# Altium integrated library Microchip Microcontroller 8-Bit PIC16 1.IntLib: 1072 symbols (part 33 of 33)
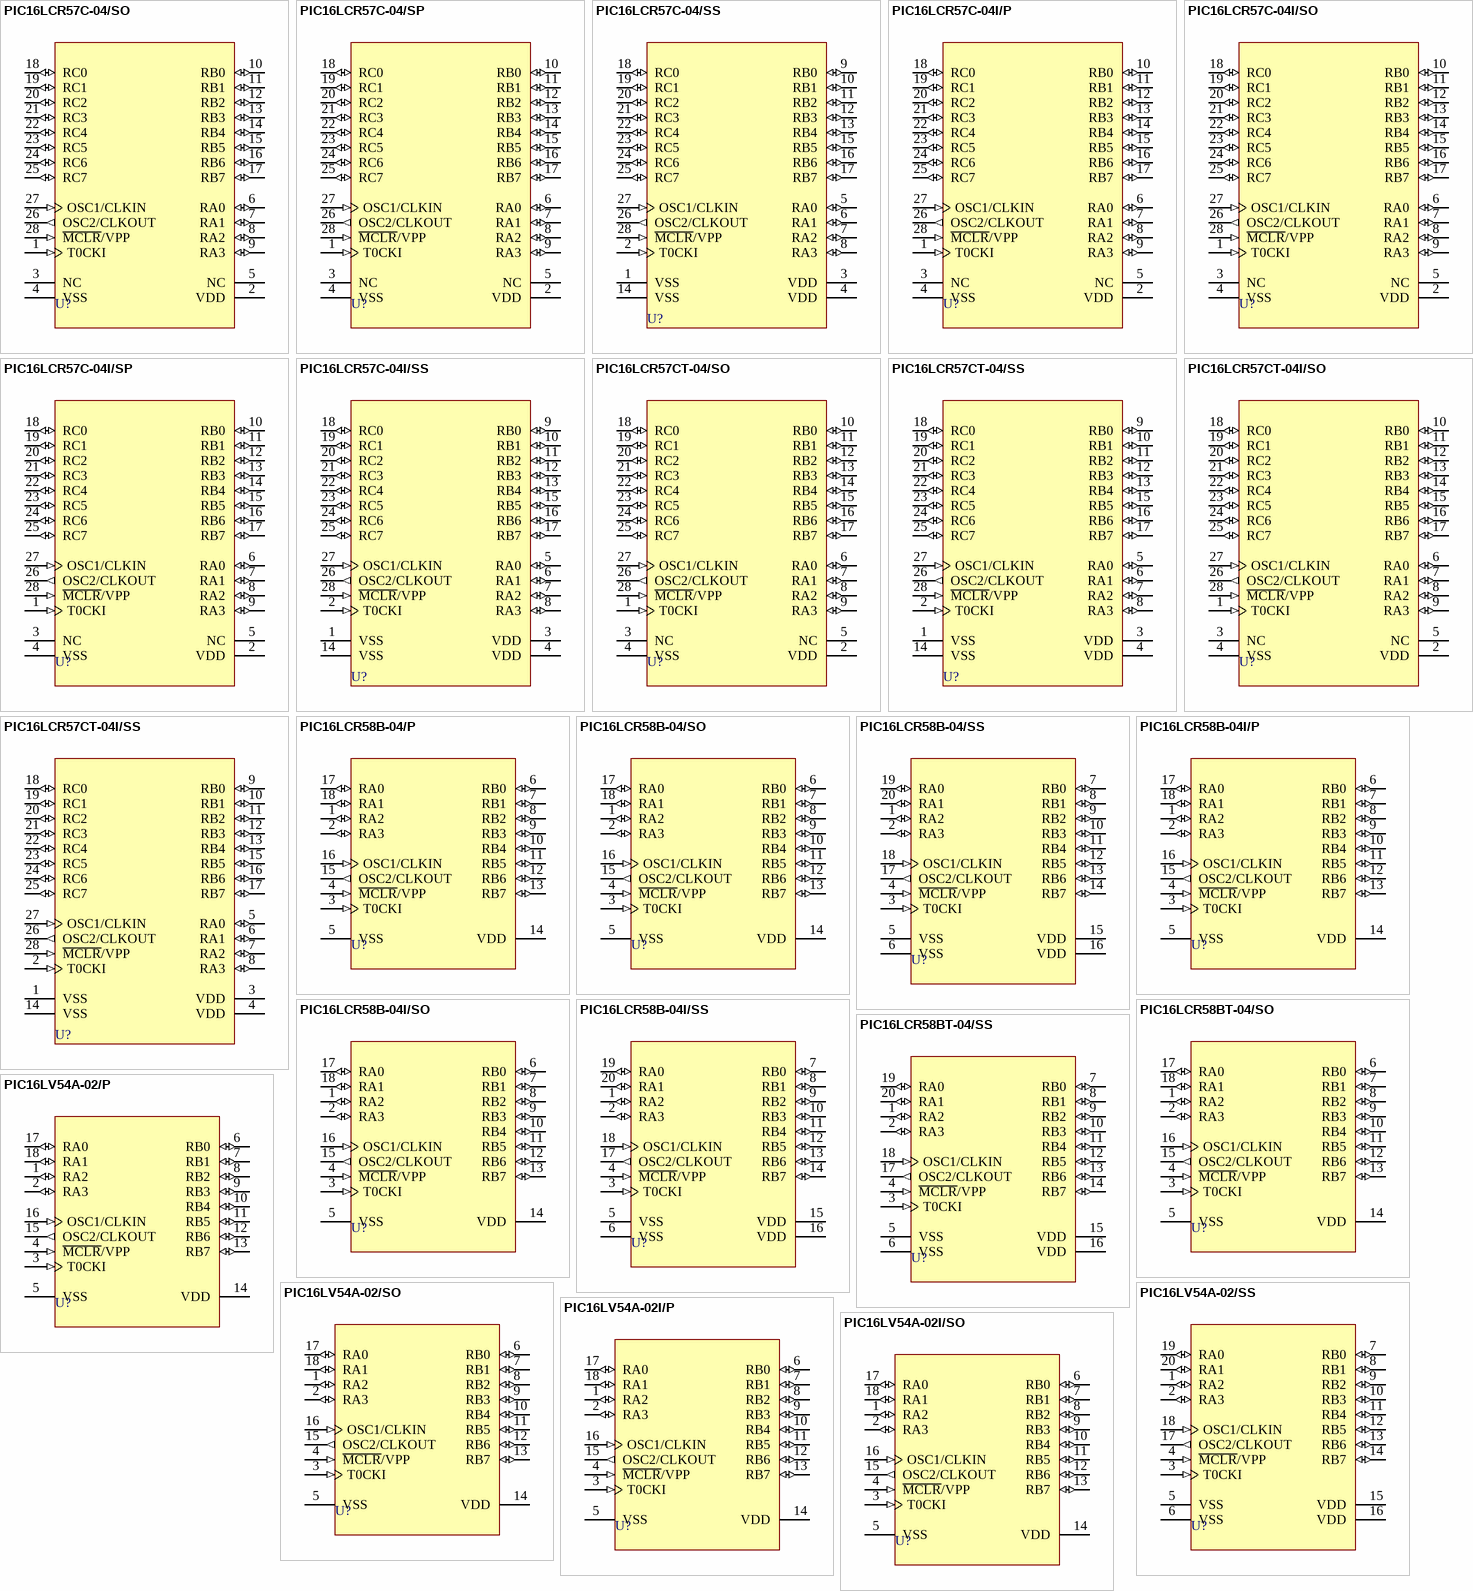
[diagram p79: symbols PIC16LCR57C-04/SO to PIC16LV54A-02I/SO]

## PIC16LCR57C-04/SS
designator U?
ROM-Based 8-Bit CMOS Microcontroller, 72 Bytes RAM, 4 MHz, 28-Pin SSOP, 2.5 to 5.5V Supply Range, Commercial Temperature; Note: Verify oscillator characteristics if changing from this device to another.; Note: 20mA source and 25mA sink per I/O.; Published: 11-Oct-2004; LatestRevisionDate: 04-Mar-2005; LatestRevisionNote: Stylized 3D Model Added.; DatasheetVersion: DS30453D_2002; PackageVersion: 2005; PackageReference: SSOP-28; Publisher: Altium Limited; PackageDescription: SSOP, Plastic; 28 Leads; Body Width 5.2 mm; Pitch 0.65 mm; Code_JEDEC: MS-150; ComponentLink1Description: Manufacturer Link; ComponentLink1URL: http://www.microchip.com; ComponentLink2Description: Datasheet; ComponentLink2URL: http://ww1.microchip.com/downloads/en/DeviceDoc/30453d.pdf; ComponentLink3Description: Packaging Specification; ComponentLink3URL: http://ww1.microchip.com/downloads/en/PackagingSpec/00049AD.pdf
footprint SSOP-28 (SSOP, Plastic; 28 Leads; Body Width 5.2 mm; Pitch 0.65 mm)
3D model SSOP-28 (SSOP, Plastic; 28 Leads; Body Width 5.2 mm; Pitch 0.65 mm)
pins: 1 VSS (power), 2 T0CKI (in), 3 VDD (power), 4 VDD (power), 5 RA0 (io), 6 RA1 (io), 7 RA2 (io), 8 RA3 (io), 9 RB0 (io), 10 RB1 (io), 11 RB2 (io), 12 RB3 (io), 13 RB4 (io), 14 VSS (power), 15 RB5 (io), 16 RB6 (io), 17 RB7 (io), 18 RC0 (io), 19 RC1 (io), 20 RC2 (io), 21 RC3 (io), 22 RC4 (io), 23 RC5 (io), 24 RC6 (io), 25 RC7 (io), 26 OSC2/CLKOUT (out), 27 OSC1/CLKIN (in), 28 ~{MCLR}/VPP (in)

## PIC16LCR57C-04I/P
designator U?
ROM-Based 8-Bit CMOS Microcontroller, 72 Bytes RAM, 4 MHz, 28-Pin PDIP 600mil, 2.7 to 5.5V Supply Range, Industrial Temperature; Note: Verify oscillator characteristics if changing from this device to another.; Note: 20mA source and 25mA sink per I/O.; Published: 11-Oct-2004; LatestRevisionDate: 04-Mar-2005; LatestRevisionNote: Stylized 3D Model Added.; DatasheetVersion: DS30453D_2002; PackageVersion: 2003; PackageReference: PDIP600-28; Publisher: Altium Limited; PackageDescription: DIP, Plastic; 28 Leads; Row Spacing 15.24 mm; Pitch 2.54 mm; Code_JEDEC: MO-011; ComponentLink1Description: Manufacturer Link; ComponentLink1URL: http://www.microchip.com; ComponentLink2Description: Datasheet; ComponentLink2URL: http://ww1.microchip.com/downloads/en/DeviceDoc/30453d.pdf; ComponentLink3Description: Packaging Specification; ComponentLink3URL: http://ww1.microchip.com/downloads/en/PackagingSpec/00049AD.pdf
footprint PDIP600-28 (DIP, Plastic; 28 Leads; Row Spacing 15.24 mm; Pitch 2.54 mm)
3D model PDIP600-28 (DIP, Plastic; 28 Leads; Row Spacing 15.24 mm; Pitch 2.54 mm)
pins: 1 T0CKI (in), 2 VDD (power), 3 NC, 4 VSS (power), 5 NC, 6 RA0 (io), 7 RA1 (io), 8 RA2 (io), 9 RA3 (io), 10 RB0 (io), 11 RB1 (io), 12 RB2 (io), 13 RB3 (io), 14 RB4 (io), 15 RB5 (io), 16 RB6 (io), 17 RB7 (io), 18 RC0 (io), 19 RC1 (io), 20 RC2 (io), 21 RC3 (io), 22 RC4 (io), 23 RC5 (io), 24 RC6 (io), 25 RC7 (io), 26 OSC2/CLKOUT (out), 27 OSC1/CLKIN (in), 28 ~{MCLR}/VPP (in)

## PIC16LCR57C-04I/SO
designator U?
ROM-Based 8-Bit CMOS Microcontroller, 72 Bytes RAM, 4 MHz, 28-Pin SOIC, 2.7 to 5.5V Supply Range, Industrial Temperature; Note: Verify oscillator characteristics if changing from this device to another.; Note: 20mA source and 25mA sink per I/O.; Published: 11-Oct-2004; LatestRevisionDate: 13-Apr-2006; LatestRevisionNote: IPC-7351 Footprint Added.; DatasheetVersion: DS30453D_2002; PackageVersion: 2005; PackageReference: SOIC300-28; Publisher: Altium Limited; PackageDescription: 28-Pin Small Outline Integrated Circuit 1.27 mm Pitch; Code_JEDEC: MS-013; ComponentLink1Description: Manufacturer Link; ComponentLink1URL: http://www.microchip.com; ComponentLink2Description: Datasheet; ComponentLink2URL: http://ww1.microchip.com/downloads/en/DeviceDoc/30453d.pdf; ComponentLink3Description: Packaging Specification; ComponentLink3URL: http://ww1.microchip.com/downloads/en/PackagingSpec/00049AD.pdf
footprint SOIC300-28_N (SOIC, 28-Leads, Body 17.9x7.5mm, Pitch 1.27mm, IPC Medium Density)
footprint SOIC300-28_L (SOIC, 28-Leads, Body 17.9x7.5mm, Pitch 1.27mm, IPC High Density)
footprint SOIC300-28_M (SOIC, 28-Leads, Body 17.9x7.5mm, Pitch 1.27mm, IPC Low Density)
3D model SOIC300-28 (28-Pin Small Outline Integrated Circuit 1.27 mm Pitch)
pins: 1 T0CKI (in), 2 VDD (power), 3 NC, 4 VSS (power), 5 NC, 6 RA0 (io), 7 RA1 (io), 8 RA2 (io), 9 RA3 (io), 10 RB0 (io), 11 RB1 (io), 12 RB2 (io), 13 RB3 (io), 14 RB4 (io), 15 RB5 (io), 16 RB6 (io), 17 RB7 (io), 18 RC0 (io), 19 RC1 (io), 20 RC2 (io), 21 RC3 (io), 22 RC4 (io), 23 RC5 (io), 24 RC6 (io), 25 RC7 (io), 26 OSC2/CLKOUT (out), 27 OSC1/CLKIN (in), 28 ~{MCLR}/VPP (in)

## PIC16LCR57C-04I/SP
designator U?
ROM-Based 8-Bit CMOS Microcontroller, 72 Bytes RAM, 4 MHz, 28-Pin PDIP 300mil, 2.7 to 5.5V Supply Range, Industrial Temperature; Note: Verify oscillator characteristics if changing from this device to another.; Note: 20mA source and 25mA sink per I/O.; Published: 11-Oct-2004; LatestRevisionDate: 04-Mar-2005; LatestRevisionNote: Stylized 3D Model Added.; DatasheetVersion: DS30453D_2002; PackageVersion: 2003; PackageReference: PDIP300-28; Publisher: Altium Limited; PackageDescription: DIP, Plastic, Skinny; 28 Leads; Row Spacing 7.62 mm; Pitch 2.54 mm; Code_JEDEC: MO-095; ComponentLink1Description: Manufacturer Link; ComponentLink1URL: http://www.microchip.com; ComponentLink2Description: Datasheet; ComponentLink2URL: http://ww1.microchip.com/downloads/en/DeviceDoc/30453d.pdf; ComponentLink3Description: Packaging Specification; ComponentLink3URL: http://ww1.microchip.com/downloads/en/PackagingSpec/00049AD.pdf
footprint PDIP300-28 (DIP, Plastic, Skinny; 28 Leads; Row Spacing 7.62 mm; Pitch 2.54 mm)
3D model PDIP300-28 (DIP, Plastic, Skinny; 28 Leads; Row Spacing 7.62 mm; Pitch 2.54 mm)
pins: 1 T0CKI (in), 2 VDD (power), 3 NC, 4 VSS (power), 5 NC, 6 RA0 (io), 7 RA1 (io), 8 RA2 (io), 9 RA3 (io), 10 RB0 (io), 11 RB1 (io), 12 RB2 (io), 13 RB3 (io), 14 RB4 (io), 15 RB5 (io), 16 RB6 (io), 17 RB7 (io), 18 RC0 (io), 19 RC1 (io), 20 RC2 (io), 21 RC3 (io), 22 RC4 (io), 23 RC5 (io), 24 RC6 (io), 25 RC7 (io), 26 OSC2/CLKOUT (out), 27 OSC1/CLKIN (in), 28 ~{MCLR}/VPP (in)

## PIC16LCR57C-04I/SS
designator U?
ROM-Based 8-Bit CMOS Microcontroller, 72 Bytes RAM, 4 MHz, 28-Pin SSOP, 2.7 to 5.5V Supply Range, Industrial Temperature; Note: Verify oscillator characteristics if changing from this device to another.; Note: 20mA source and 25mA sink per I/O.; Published: 11-Oct-2004; LatestRevisionDate: 04-Mar-2005; LatestRevisionNote: Stylized 3D Model Added.; DatasheetVersion: DS30453D_2002; PackageVersion: 2005; PackageReference: SSOP-28; Publisher: Altium Limited; PackageDescription: SSOP, Plastic; 28 Leads; Body Width 5.2 mm; Pitch 0.65 mm; Code_JEDEC: MS-150; ComponentLink1Description: Manufacturer Link; ComponentLink1URL: http://www.microchip.com; ComponentLink2Description: Datasheet; ComponentLink2URL: http://ww1.microchip.com/downloads/en/DeviceDoc/30453d.pdf; ComponentLink3Description: Packaging Specification; ComponentLink3URL: http://ww1.microchip.com/downloads/en/PackagingSpec/00049AD.pdf
footprint SSOP-28 (SSOP, Plastic; 28 Leads; Body Width 5.2 mm; Pitch 0.65 mm)
3D model SSOP-28 (SSOP, Plastic; 28 Leads; Body Width 5.2 mm; Pitch 0.65 mm)
pins: 1 VSS (power), 2 T0CKI (in), 3 VDD (power), 4 VDD (power), 5 RA0 (io), 6 RA1 (io), 7 RA2 (io), 8 RA3 (io), 9 RB0 (io), 10 RB1 (io), 11 RB2 (io), 12 RB3 (io), 13 RB4 (io), 14 VSS (power), 15 RB5 (io), 16 RB6 (io), 17 RB7 (io), 18 RC0 (io), 19 RC1 (io), 20 RC2 (io), 21 RC3 (io), 22 RC4 (io), 23 RC5 (io), 24 RC6 (io), 25 RC7 (io), 26 OSC2/CLKOUT (out), 27 OSC1/CLKIN (in), 28 ~{MCLR}/VPP (in)

## PIC16LCR57CT-04/SO
designator U?
ROM-Based 8-Bit CMOS Microcontroller, 72 Bytes RAM, 4 MHz, 28-Pin SOIC, 2.5 to 5.5V Supply Range, Commercial Temperature, Tape and Reel; Note: Verify oscillator characteristics if changing from this device to another.; Note: 20mA source and 25mA sink per I/O.; Published: 11-Oct-2004; LatestRevisionDate: 13-Apr-2006; LatestRevisionNote: IPC-7351 Footprint Added.; DatasheetVersion: DS30453D_2002; PackageVersion: 2005; PackageReference: SOIC300-28; Publisher: Altium Limited; PackageDescription: 28-Pin Small Outline Integrated Circuit 1.27 mm Pitch; Code_JEDEC: MS-013; ComponentLink1Description: Manufacturer Link; ComponentLink1URL: http://www.microchip.com; ComponentLink2Description: Datasheet; ComponentLink2URL: http://ww1.microchip.com/downloads/en/DeviceDoc/30453d.pdf; ComponentLink3Description: Packaging Specification; ComponentLink3URL: http://ww1.microchip.com/downloads/en/PackagingSpec/00049AD.pdf
footprint SOIC300-28_N (SOIC, 28-Leads, Body 17.9x7.5mm, Pitch 1.27mm, IPC Medium Density)
footprint SOIC300-28_L (SOIC, 28-Leads, Body 17.9x7.5mm, Pitch 1.27mm, IPC High Density)
footprint SOIC300-28_M (SOIC, 28-Leads, Body 17.9x7.5mm, Pitch 1.27mm, IPC Low Density)
3D model SOIC300-28 (28-Pin Small Outline Integrated Circuit 1.27 mm Pitch)
pins: 1 T0CKI (in), 2 VDD (power), 3 NC, 4 VSS (power), 5 NC, 6 RA0 (io), 7 RA1 (io), 8 RA2 (io), 9 RA3 (io), 10 RB0 (io), 11 RB1 (io), 12 RB2 (io), 13 RB3 (io), 14 RB4 (io), 15 RB5 (io), 16 RB6 (io), 17 RB7 (io), 18 RC0 (io), 19 RC1 (io), 20 RC2 (io), 21 RC3 (io), 22 RC4 (io), 23 RC5 (io), 24 RC6 (io), 25 RC7 (io), 26 OSC2/CLKOUT (out), 27 OSC1/CLKIN (in), 28 ~{MCLR}/VPP (in)

## PIC16LCR57CT-04/SS
designator U?
ROM-Based 8-Bit CMOS Microcontroller, 72 Bytes RAM, 4 MHz, 28-Pin SSOP, 2.5 to 5.5V Supply Range, Commercial Temperature, Tape and Reel; Note: Verify oscillator characteristics if changing from this device to another.; Note: 20mA source and 25mA sink per I/O.; Published: 11-Oct-2004; LatestRevisionDate: 04-Mar-2005; LatestRevisionNote: Stylized 3D Model Added.; DatasheetVersion: DS30453D_2002; PackageVersion: 2005; PackageReference: SSOP-28; Publisher: Altium Limited; PackageDescription: SSOP, Plastic; 28 Leads; Body Width 5.2 mm; Pitch 0.65 mm; Code_JEDEC: MS-150; ComponentLink1Description: Manufacturer Link; ComponentLink1URL: http://www.microchip.com; ComponentLink2Description: Datasheet; ComponentLink2URL: http://ww1.microchip.com/downloads/en/DeviceDoc/30453d.pdf; ComponentLink3Description: Packaging Specification; ComponentLink3URL: http://ww1.microchip.com/downloads/en/PackagingSpec/00049AD.pdf
footprint SSOP-28 (SSOP, Plastic; 28 Leads; Body Width 5.2 mm; Pitch 0.65 mm)
3D model SSOP-28 (SSOP, Plastic; 28 Leads; Body Width 5.2 mm; Pitch 0.65 mm)
pins: 1 VSS (power), 2 T0CKI (in), 3 VDD (power), 4 VDD (power), 5 RA0 (io), 6 RA1 (io), 7 RA2 (io), 8 RA3 (io), 9 RB0 (io), 10 RB1 (io), 11 RB2 (io), 12 RB3 (io), 13 RB4 (io), 14 VSS (power), 15 RB5 (io), 16 RB6 (io), 17 RB7 (io), 18 RC0 (io), 19 RC1 (io), 20 RC2 (io), 21 RC3 (io), 22 RC4 (io), 23 RC5 (io), 24 RC6 (io), 25 RC7 (io), 26 OSC2/CLKOUT (out), 27 OSC1/CLKIN (in), 28 ~{MCLR}/VPP (in)

## PIC16LCR57CT-04I/SO
designator U?
ROM-Based 8-Bit CMOS Microcontroller, 72 Bytes RAM, 4 MHz, 28-Pin SOIC, 2.7 to 5.5V Supply Range, Industrial Temperature, Tape and Reel; Note: Verify oscillator characteristics if changing from this device to another.; Note: 20mA source and 25mA sink per I/O.; Published: 11-Oct-2004; LatestRevisionDate: 13-Apr-2006; LatestRevisionNote: IPC-7351 Footprint Added.; DatasheetVersion: DS30453D_2002; PackageVersion: 2005; PackageReference: SOIC300-28; Publisher: Altium Limited; PackageDescription: 28-Pin Small Outline Integrated Circuit 1.27 mm Pitch; Code_JEDEC: MS-013; ComponentLink1Description: Manufacturer Link; ComponentLink1URL: http://www.microchip.com; ComponentLink2Description: Datasheet; ComponentLink2URL: http://ww1.microchip.com/downloads/en/DeviceDoc/30453d.pdf; ComponentLink3Description: Packaging Specification; ComponentLink3URL: http://ww1.microchip.com/downloads/en/PackagingSpec/00049AD.pdf
footprint SOIC300-28_N (SOIC, 28-Leads, Body 17.9x7.5mm, Pitch 1.27mm, IPC Medium Density)
footprint SOIC300-28_L (SOIC, 28-Leads, Body 17.9x7.5mm, Pitch 1.27mm, IPC High Density)
footprint SOIC300-28_M (SOIC, 28-Leads, Body 17.9x7.5mm, Pitch 1.27mm, IPC Low Density)
3D model SOIC300-28 (28-Pin Small Outline Integrated Circuit 1.27 mm Pitch)
pins: 1 T0CKI (in), 2 VDD (power), 3 NC, 4 VSS (power), 5 NC, 6 RA0 (io), 7 RA1 (io), 8 RA2 (io), 9 RA3 (io), 10 RB0 (io), 11 RB1 (io), 12 RB2 (io), 13 RB3 (io), 14 RB4 (io), 15 RB5 (io), 16 RB6 (io), 17 RB7 (io), 18 RC0 (io), 19 RC1 (io), 20 RC2 (io), 21 RC3 (io), 22 RC4 (io), 23 RC5 (io), 24 RC6 (io), 25 RC7 (io), 26 OSC2/CLKOUT (out), 27 OSC1/CLKIN (in), 28 ~{MCLR}/VPP (in)

## PIC16LCR57CT-04I/SS
designator U?
ROM-Based 8-Bit CMOS Microcontroller, 72 Bytes RAM, 4 MHz, 28-Pin SSOP, 2.7 to 5.5V Supply Range, Industrial Temperature, Tape and Reel; Note: Verify oscillator characteristics if changing from this device to another.; Note: 20mA source and 25mA sink per I/O.; Published: 11-Oct-2004; LatestRevisionDate: 04-Mar-2005; LatestRevisionNote: Stylized 3D Model Added.; DatasheetVersion: DS30453D_2002; PackageVersion: 2005; PackageReference: SSOP-28; Publisher: Altium Limited; PackageDescription: SSOP, Plastic; 28 Leads; Body Width 5.2 mm; Pitch 0.65 mm; Code_JEDEC: MS-150; ComponentLink1Description: Manufacturer Link; ComponentLink1URL: http://www.microchip.com; ComponentLink2Description: Datasheet; ComponentLink2URL: http://ww1.microchip.com/downloads/en/DeviceDoc/30453d.pdf; ComponentLink3Description: Packaging Specification; ComponentLink3URL: http://ww1.microchip.com/downloads/en/PackagingSpec/00049AD.pdf
footprint SSOP-28 (SSOP, Plastic; 28 Leads; Body Width 5.2 mm; Pitch 0.65 mm)
3D model SSOP-28 (SSOP, Plastic; 28 Leads; Body Width 5.2 mm; Pitch 0.65 mm)
pins: 1 VSS (power), 2 T0CKI (in), 3 VDD (power), 4 VDD (power), 5 RA0 (io), 6 RA1 (io), 7 RA2 (io), 8 RA3 (io), 9 RB0 (io), 10 RB1 (io), 11 RB2 (io), 12 RB3 (io), 13 RB4 (io), 14 VSS (power), 15 RB5 (io), 16 RB6 (io), 17 RB7 (io), 18 RC0 (io), 19 RC1 (io), 20 RC2 (io), 21 RC3 (io), 22 RC4 (io), 23 RC5 (io), 24 RC6 (io), 25 RC7 (io), 26 OSC2/CLKOUT (out), 27 OSC1/CLKIN (in), 28 ~{MCLR}/VPP (in)

## PIC16LCR58B-04/P
designator U?
ROM-Based 8-Bit CMOS Microcontroller, 73 Bytes RAM, 4 MHz, 18-Pin PDIP, 2.5 to 5.5V Supply Range, Commercial Temperature; Note: Verify oscillator characteristics if changing from this device to another.; Note: 20mA source and 25mA sink per I/O.; Published: 11-Oct-2004; LatestRevisionDate: 04-Mar-2005; LatestRevisionNote: Stylized 3D Model Added.; DatasheetVersion: DS30453D_2002; PackageVersion: 2003; PackageReference: PDIP300-18; Publisher: Altium Limited; PackageDescription: DIP, Plastic; 18 Leads; Row Spacing 7.62 mm; Pitch 2.54 mm; Code_JEDEC: MS-001; ComponentLink1Description: Manufacturer Link; ComponentLink1URL: http://www.microchip.com; ComponentLink2Description: Datasheet; ComponentLink2URL: http://ww1.microchip.com/downloads/en/DeviceDoc/30453d.pdf; ComponentLink3Description: Packaging Specification; ComponentLink3URL: http://ww1.microchip.com/downloads/en/PackagingSpec/00049AD.pdf
footprint PDIP300-18 (DIP, Plastic; 18 Leads; Row Spacing 7.62 mm; Pitch 2.54 mm)
3D model PDIP300-18 (DIP, Plastic; 18 Leads; Row Spacing 7.62 mm; Pitch 2.54 mm)
pins: 1 RA2 (io), 2 RA3 (io), 3 T0CKI (in), 4 ~{MCLR}/VPP (in), 5 VSS (power), 6 RB0 (io), 7 RB1 (io), 8 RB2 (io), 9 RB3 (io), 10 RB4 (io), 11 RB5 (io), 12 RB6 (io), 13 RB7 (io), 14 VDD (power), 15 OSC2/CLKOUT (out), 16 OSC1/CLKIN (in), 17 RA0 (io), 18 RA1 (io)

## PIC16LCR58B-04/SO
designator U?
ROM-Based 8-Bit CMOS Microcontroller, 73 Bytes RAM, 4 MHz, 18-Pin SOIC, 2.5 to 5.5V Supply Range, Commercial Temperature; Note: Verify oscillator characteristics if changing from this device to another.; Note: 20mA source and 25mA sink per I/O.; Published: 11-Oct-2004; LatestRevisionDate: 13-Apr-2006; LatestRevisionNote: IPC-7351 Footprint Added.; DatasheetVersion: DS30453D_2002; PackageVersion: 2003; PackageReference: SOIC300-18; Publisher: Altium Limited; PackageDescription: 18-Pin Small Outline Integrated Circuit 1.27 mm Pitch; Code_JEDEC: MS-013; ComponentLink1Description: Manufacturer Link; ComponentLink1URL: http://www.microchip.com; ComponentLink2Description: Datasheet; ComponentLink2URL: http://ww1.microchip.com/downloads/en/DeviceDoc/30453d.pdf; ComponentLink3Description: Packaging Specification; ComponentLink3URL: http://ww1.microchip.com/downloads/en/PackagingSpec/00049AD.pdf
footprint SOIC300-18_N (SOIC, 18-Leads, Body 11.5x7.5mm, Pitch 1.27mm, IPC Medium Density)
footprint SOIC300-18_L (SOIC, 18-Leads, Body 11.5x7.5mm, Pitch 1.27mm, IPC High Density)
footprint SOIC300-18_M (SOIC, 18-Leads, Body 11.5x7.5mm, Pitch 1.27mm, IPC Low Density)
3D model SOIC300-18 (18-Pin Small Outline Integrated Circuit 1.27 mm Pitch)
pins: 1 RA2 (io), 2 RA3 (io), 3 T0CKI (in), 4 ~{MCLR}/VPP (in), 5 VSS (power), 6 RB0 (io), 7 RB1 (io), 8 RB2 (io), 9 RB3 (io), 10 RB4 (io), 11 RB5 (io), 12 RB6 (io), 13 RB7 (io), 14 VDD (power), 15 OSC2/CLKOUT (out), 16 OSC1/CLKIN (in), 17 RA0 (io), 18 RA1 (io)

## PIC16LCR58B-04/SS
designator U?
ROM-Based 8-Bit CMOS Microcontroller, 73 Bytes RAM, 4 MHz, 20-Pin SSOP, 2.5 to 5.5V Supply Range, Commercial Temperature; Note: Verify oscillator characteristics if changing from this device to another.; Note: 20mA source and 25mA sink per I/O.; Published: 11-Oct-2004; LatestRevisionDate: 04-Mar-2005; LatestRevisionNote: Stylized 3D Model Added.; DatasheetVersion: DS30453D_2002; PackageVersion: 2003; PackageReference: SSOP-20; Publisher: Altium Limited; PackageDescription: SSOP, Plastic; 20 Leads; Body Width 5.3 mm; Pitch 0.65 mm; Code_JEDEC: MO-150; ComponentLink1Description: Manufacturer Link; ComponentLink1URL: http://www.microchip.com; ComponentLink2Description: Datasheet; ComponentLink2URL: http://ww1.microchip.com/downloads/en/DeviceDoc/30453d.pdf; ComponentLink3Description: Packaging Specification; ComponentLink3URL: http://ww1.microchip.com/downloads/en/PackagingSpec/00049AD.pdf
footprint SSOP-20 (SSOP, Plastic; 20 Leads; Body Width 5.3 mm; Pitch 0.65 mm)
3D model SSOP-20 (SSOP, Plastic; 20 Leads; Body Width 5.3 mm; Pitch 0.65 mm)
pins: 1 RA2 (io), 2 RA3 (io), 3 T0CKI (in), 4 ~{MCLR}/VPP (in), 5 VSS (power), 6 VSS (power), 7 RB0 (io), 8 RB1 (io), 9 RB2 (io), 10 RB3 (io), 11 RB4 (io), 12 RB5 (io), 13 RB6 (io), 14 RB7 (io), 15 VDD (power), 16 VDD (power), 17 OSC2/CLKOUT (out), 18 OSC1/CLKIN (in), 19 RA0 (io), 20 RA1 (io)

## PIC16LCR58B-04I/P
designator U?
ROM-Based 8-Bit CMOS Microcontroller, 73 Bytes RAM, 4 MHz, 18-Pin PDIP, 2.7 to 5.5V Supply Range, Industrial Temperature; Note: Verify oscillator characteristics if changing from this device to another.; Note: 20mA source and 25mA sink per I/O.; Published: 11-Oct-2004; LatestRevisionDate: 04-Mar-2005; LatestRevisionNote: Stylized 3D Model Added.; DatasheetVersion: DS30453D_2002; PackageVersion: 2003; PackageReference: PDIP300-18; Publisher: Altium Limited; PackageDescription: DIP, Plastic; 18 Leads; Row Spacing 7.62 mm; Pitch 2.54 mm; Code_JEDEC: MS-001; ComponentLink1Description: Manufacturer Link; ComponentLink1URL: http://www.microchip.com; ComponentLink2Description: Datasheet; ComponentLink2URL: http://ww1.microchip.com/downloads/en/DeviceDoc/30453d.pdf; ComponentLink3Description: Packaging Specification; ComponentLink3URL: http://ww1.microchip.com/downloads/en/PackagingSpec/00049AD.pdf
footprint PDIP300-18 (DIP, Plastic; 18 Leads; Row Spacing 7.62 mm; Pitch 2.54 mm)
3D model PDIP300-18 (DIP, Plastic; 18 Leads; Row Spacing 7.62 mm; Pitch 2.54 mm)
pins: 1 RA2 (io), 2 RA3 (io), 3 T0CKI (in), 4 ~{MCLR}/VPP (in), 5 VSS (power), 6 RB0 (io), 7 RB1 (io), 8 RB2 (io), 9 RB3 (io), 10 RB4 (io), 11 RB5 (io), 12 RB6 (io), 13 RB7 (io), 14 VDD (power), 15 OSC2/CLKOUT (out), 16 OSC1/CLKIN (in), 17 RA0 (io), 18 RA1 (io)

## PIC16LCR58B-04I/SO
designator U?
ROM-Based 8-Bit CMOS Microcontroller, 73 Bytes RAM, 4 MHz, 18-Pin SOIC, 2.7 to 5.5V Supply Range, Industrial Temperature; Note: Verify oscillator characteristics if changing from this device to another.; Note: 20mA source and 25mA sink per I/O.; Published: 11-Oct-2004; LatestRevisionDate: 13-Apr-2006; LatestRevisionNote: IPC-7351 Footprint Added.; DatasheetVersion: DS30453D_2002; PackageVersion: 2003; PackageReference: SOIC300-18; Publisher: Altium Limited; PackageDescription: 18-Pin Small Outline Integrated Circuit 1.27 mm Pitch; Code_JEDEC: MS-013; ComponentLink1Description: Manufacturer Link; ComponentLink1URL: http://www.microchip.com; ComponentLink2Description: Datasheet; ComponentLink2URL: http://ww1.microchip.com/downloads/en/DeviceDoc/30453d.pdf; ComponentLink3Description: Packaging Specification; ComponentLink3URL: http://ww1.microchip.com/downloads/en/PackagingSpec/00049AD.pdf
footprint SOIC300-18_N (SOIC, 18-Leads, Body 11.5x7.5mm, Pitch 1.27mm, IPC Medium Density)
footprint SOIC300-18_L (SOIC, 18-Leads, Body 11.5x7.5mm, Pitch 1.27mm, IPC High Density)
footprint SOIC300-18_M (SOIC, 18-Leads, Body 11.5x7.5mm, Pitch 1.27mm, IPC Low Density)
3D model SOIC300-18 (18-Pin Small Outline Integrated Circuit 1.27 mm Pitch)
pins: 1 RA2 (io), 2 RA3 (io), 3 T0CKI (in), 4 ~{MCLR}/VPP (in), 5 VSS (power), 6 RB0 (io), 7 RB1 (io), 8 RB2 (io), 9 RB3 (io), 10 RB4 (io), 11 RB5 (io), 12 RB6 (io), 13 RB7 (io), 14 VDD (power), 15 OSC2/CLKOUT (out), 16 OSC1/CLKIN (in), 17 RA0 (io), 18 RA1 (io)

## PIC16LCR58B-04I/SS
designator U?
ROM-Based 8-Bit CMOS Microcontroller, 73 Bytes RAM, 4 MHz, 20-Pin SSOP, 2.7 to 5.5V Supply Range, Industrial Temperature; Note: Verify oscillator characteristics if changing from this device to another.; Note: 20mA source and 25mA sink per I/O.; Published: 11-Oct-2004; LatestRevisionDate: 04-Mar-2005; LatestRevisionNote: Stylized 3D Model Added.; DatasheetVersion: DS30453D_2002; PackageVersion: 2003; PackageReference: SSOP-20; Publisher: Altium Limited; PackageDescription: SSOP, Plastic; 20 Leads; Body Width 5.3 mm; Pitch 0.65 mm; Code_JEDEC: MO-150; ComponentLink1Description: Manufacturer Link; ComponentLink1URL: http://www.microchip.com; ComponentLink2Description: Datasheet; ComponentLink2URL: http://ww1.microchip.com/downloads/en/DeviceDoc/30453d.pdf; ComponentLink3Description: Packaging Specification; ComponentLink3URL: http://ww1.microchip.com/downloads/en/PackagingSpec/00049AD.pdf
footprint SSOP-20 (SSOP, Plastic; 20 Leads; Body Width 5.3 mm; Pitch 0.65 mm)
3D model SSOP-20 (SSOP, Plastic; 20 Leads; Body Width 5.3 mm; Pitch 0.65 mm)
pins: 1 RA2 (io), 2 RA3 (io), 3 T0CKI (in), 4 ~{MCLR}/VPP (in), 5 VSS (power), 6 VSS (power), 7 RB0 (io), 8 RB1 (io), 9 RB2 (io), 10 RB3 (io), 11 RB4 (io), 12 RB5 (io), 13 RB6 (io), 14 RB7 (io), 15 VDD (power), 16 VDD (power), 17 OSC2/CLKOUT (out), 18 OSC1/CLKIN (in), 19 RA0 (io), 20 RA1 (io)

## PIC16LCR58BT-04/SO
designator U?
ROM-Based 8-Bit CMOS Microcontroller, 73 Bytes RAM, 4 MHz, 18-Pin SOIC, 2.5 to 5.5V Supply Range, Commercial Temperature, Tape and Reel; Note: Verify oscillator characteristics if changing from this device to another.; Note: 20mA source and 25mA sink per I/O.; Published: 11-Oct-2004; LatestRevisionDate: 13-Apr-2006; LatestRevisionNote: IPC-7351 Footprint Added.; DatasheetVersion: DS30453D_2002; PackageVersion: 2003; PackageReference: SOIC300-18; Publisher: Altium Limited; PackageDescription: 18-Pin Small Outline Integrated Circuit 1.27 mm Pitch; Code_JEDEC: MS-013; ComponentLink1Description: Manufacturer Link; ComponentLink1URL: http://www.microchip.com; ComponentLink2Description: Datasheet; ComponentLink2URL: http://ww1.microchip.com/downloads/en/DeviceDoc/30453d.pdf; ComponentLink3Description: Packaging Specification; ComponentLink3URL: http://ww1.microchip.com/downloads/en/PackagingSpec/00049AD.pdf
footprint SOIC300-18_N (SOIC, 18-Leads, Body 11.5x7.5mm, Pitch 1.27mm, IPC Medium Density)
footprint SOIC300-18_L (SOIC, 18-Leads, Body 11.5x7.5mm, Pitch 1.27mm, IPC High Density)
footprint SOIC300-18_M (SOIC, 18-Leads, Body 11.5x7.5mm, Pitch 1.27mm, IPC Low Density)
3D model SOIC300-18 (18-Pin Small Outline Integrated Circuit 1.27 mm Pitch)
pins: 1 RA2 (io), 2 RA3 (io), 3 T0CKI (in), 4 ~{MCLR}/VPP (in), 5 VSS (power), 6 RB0 (io), 7 RB1 (io), 8 RB2 (io), 9 RB3 (io), 10 RB4 (io), 11 RB5 (io), 12 RB6 (io), 13 RB7 (io), 14 VDD (power), 15 OSC2/CLKOUT (out), 16 OSC1/CLKIN (in), 17 RA0 (io), 18 RA1 (io)

## PIC16LCR58BT-04/SS
designator U?
ROM-Based 8-Bit CMOS Microcontroller, 73 Bytes RAM, 4 MHz, 20-Pin SSOP, 2.5 to 5.5V Supply Range, Commercial Temperature, Tape and Reel; Note: Verify oscillator characteristics if changing from this device to another.; Note: 20mA source and 25mA sink per I/O.; Published: 11-Oct-2004; LatestRevisionDate: 04-Mar-2005; LatestRevisionNote: Stylized 3D Model Added.; DatasheetVersion: DS30453D_2002; PackageVersion: 2003; PackageReference: SSOP-20; Publisher: Altium Limited; PackageDescription: SSOP, Plastic; 20 Leads; Body Width 5.3 mm; Pitch 0.65 mm; Code_JEDEC: MO-150; ComponentLink1Description: Manufacturer Link; ComponentLink1URL: http://www.microchip.com; ComponentLink2Description: Datasheet; ComponentLink2URL: http://ww1.microchip.com/downloads/en/DeviceDoc/30453d.pdf; ComponentLink3Description: Packaging Specification; ComponentLink3URL: http://ww1.microchip.com/downloads/en/PackagingSpec/00049AD.pdf
footprint SSOP-20 (SSOP, Plastic; 20 Leads; Body Width 5.3 mm; Pitch 0.65 mm)
3D model SSOP-20 (SSOP, Plastic; 20 Leads; Body Width 5.3 mm; Pitch 0.65 mm)
pins: 1 RA2 (io), 2 RA3 (io), 3 T0CKI (in), 4 ~{MCLR}/VPP (in), 5 VSS (power), 6 VSS (power), 7 RB0 (io), 8 RB1 (io), 9 RB2 (io), 10 RB3 (io), 11 RB4 (io), 12 RB5 (io), 13 RB6 (io), 14 RB7 (io), 15 VDD (power), 16 VDD (power), 17 OSC2/CLKOUT (out), 18 OSC1/CLKIN (in), 19 RA0 (io), 20 RA1 (io)

## PIC16LV54A-02/P
designator U?
EPROM-Based 8-Bit CMOS Microcontroller, 25 Bytes RAM, 200 kHz, 18-Pin PDIP, 2.5 to 3.8V Supply Range, Commercial Temperature; Note: Verify oscillator characteristics if changing from this device to another.; Note: Supply voltage range pertains to RC and XT modes.; Note: Not recommended for new designs. Consider PIC16C54C instead.; Published: 11-Oct-2004; LatestRevisionDate: 04-Mar-2005; LatestRevisionNote: Stylized 3D Model Added.; DatasheetVersion: DS30453D_2002; PackageVersion: 2003; PackageReference: PDIP300-18; Publisher: Altium Limited; PackageDescription: DIP, Plastic; 18 Leads; Row Spacing 7.62 mm; Pitch 2.54 mm; Code_JEDEC: MS-001; ComponentLink1Description: Manufacturer Link; ComponentLink1URL: http://www.microchip.com; ComponentLink2Description: Datasheet; ComponentLink2URL: http://ww1.microchip.com/downloads/en/DeviceDoc/30453d.pdf; ComponentLink3Description: Packaging Specification; ComponentLink3URL: http://ww1.microchip.com/downloads/en/PackagingSpec/00049AD.pdf
footprint PDIP300-18 (DIP, Plastic; 18 Leads; Row Spacing 7.62 mm; Pitch 2.54 mm)
3D model PDIP300-18 (DIP, Plastic; 18 Leads; Row Spacing 7.62 mm; Pitch 2.54 mm)
pins: 1 RA2 (io), 2 RA3 (io), 3 T0CKI (in), 4 ~{MCLR}/VPP (in), 5 VSS (power), 6 RB0 (io), 7 RB1 (io), 8 RB2 (io), 9 RB3 (io), 10 RB4 (io), 11 RB5 (io), 12 RB6 (io), 13 RB7 (io), 14 VDD (power), 15 OSC2/CLKOUT (out), 16 OSC1/CLKIN (in), 17 RA0 (io), 18 RA1 (io)

## PIC16LV54A-02/SO
designator U?
EPROM-Based 8-Bit CMOS Microcontroller, 25 Bytes RAM, 200 kHz, 18-Pin SOIC, 2.5 to 3.8V Supply Range, Commercial Temperature; Note: Verify oscillator characteristics if changing from this device to another.; Note: Supply voltage range pertains to RC and XT modes.; Note: Not recommended for new designs. Consider PIC16C54C instead.; Published: 11-Oct-2004; LatestRevisionDate: 13-Apr-2006; LatestRevisionNote: IPC-7351 Footprint Added.; DatasheetVersion: DS30453D_2002; PackageVersion: 2003; PackageReference: SOIC300-18; Publisher: Altium Limited; PackageDescription: 18-Pin Small Outline Integrated Circuit 1.27 mm Pitch; Code_JEDEC: MS-013; ComponentLink1Description: Manufacturer Link; ComponentLink1URL: http://www.microchip.com; ComponentLink2Description: Datasheet; ComponentLink2URL: http://ww1.microchip.com/downloads/en/DeviceDoc/30453d.pdf; ComponentLink3Description: Packaging Specification; ComponentLink3URL: http://ww1.microchip.com/downloads/en/PackagingSpec/00049AD.pdf
footprint SOIC300-18_N (SOIC, 18-Leads, Body 11.5x7.5mm, Pitch 1.27mm, IPC Medium Density)
footprint SOIC300-18_L (SOIC, 18-Leads, Body 11.5x7.5mm, Pitch 1.27mm, IPC High Density)
footprint SOIC300-18_M (SOIC, 18-Leads, Body 11.5x7.5mm, Pitch 1.27mm, IPC Low Density)
3D model SOIC300-18 (18-Pin Small Outline Integrated Circuit 1.27 mm Pitch)
pins: 1 RA2 (io), 2 RA3 (io), 3 T0CKI (in), 4 ~{MCLR}/VPP (in), 5 VSS (power), 6 RB0 (io), 7 RB1 (io), 8 RB2 (io), 9 RB3 (io), 10 RB4 (io), 11 RB5 (io), 12 RB6 (io), 13 RB7 (io), 14 VDD (power), 15 OSC2/CLKOUT (out), 16 OSC1/CLKIN (in), 17 RA0 (io), 18 RA1 (io)

## PIC16LV54A-02/SS
designator U?
EPROM-Based 8-Bit CMOS Microcontroller, 25 Bytes RAM, 200 kHz, 20-Pin SSOP, 2.5 to 3.8V Supply Range, Commercial Temperature; Note: Verify oscillator characteristics if changing from this device to another.; Note: Supply voltage range pertains to RC and XT modes.; Note: Not recommended for new designs. Consider PIC16C54C instead.; Published: 11-Oct-2004; LatestRevisionDate: 04-Mar-2005; LatestRevisionNote: Stylized 3D Model Added.; DatasheetVersion: DS30453D_2002; PackageVersion: 2003; PackageReference: SSOP-20; Publisher: Altium Limited; PackageDescription: SSOP, Plastic; 20 Leads; Body Width 5.3 mm; Pitch 0.65 mm; Code_JEDEC: MO-150; ComponentLink1Description: Manufacturer Link; ComponentLink1URL: http://www.microchip.com; ComponentLink2Description: Datasheet; ComponentLink2URL: http://ww1.microchip.com/downloads/en/DeviceDoc/30453d.pdf; ComponentLink3Description: Packaging Specification; ComponentLink3URL: http://ww1.microchip.com/downloads/en/PackagingSpec/00049AD.pdf
footprint SSOP-20 (SSOP, Plastic; 20 Leads; Body Width 5.3 mm; Pitch 0.65 mm)
3D model SSOP-20 (SSOP, Plastic; 20 Leads; Body Width 5.3 mm; Pitch 0.65 mm)
pins: 1 RA2 (io), 2 RA3 (io), 3 T0CKI (in), 4 ~{MCLR}/VPP (in), 5 VSS (power), 6 VSS (power), 7 RB0 (io), 8 RB1 (io), 9 RB2 (io), 10 RB3 (io), 11 RB4 (io), 12 RB5 (io), 13 RB6 (io), 14 RB7 (io), 15 VDD (power), 16 VDD (power), 17 OSC2/CLKOUT (out), 18 OSC1/CLKIN (in), 19 RA0 (io), 20 RA1 (io)

## PIC16LV54A-02I/P
designator U?
EPROM-Based 8-Bit CMOS Microcontroller, 25 Bytes RAM, 200 kHz, 18-Pin PDIP, 2.5 to 3.8V Supply Range, Industrial Temperature; Note: Verify oscillator characteristics if changing from this device to another.; Note: Supply voltage range pertains to RC and XT modes.; Note: Not recommended for new designs. Consider PIC16C54C instead.; Published: 11-Oct-2004; LatestRevisionDate: 04-Mar-2005; LatestRevisionNote: Stylized 3D Model Added.; DatasheetVersion: DS30453D_2002; PackageVersion: 2003; PackageReference: PDIP300-18; Publisher: Altium Limited; PackageDescription: DIP, Plastic; 18 Leads; Row Spacing 7.62 mm; Pitch 2.54 mm; Code_JEDEC: MS-001; ComponentLink1Description: Manufacturer Link; ComponentLink1URL: http://www.microchip.com; ComponentLink2Description: Datasheet; ComponentLink2URL: http://ww1.microchip.com/downloads/en/DeviceDoc/30453d.pdf; ComponentLink3Description: Packaging Specification; ComponentLink3URL: http://ww1.microchip.com/downloads/en/PackagingSpec/00049AD.pdf
footprint PDIP300-18 (DIP, Plastic; 18 Leads; Row Spacing 7.62 mm; Pitch 2.54 mm)
3D model PDIP300-18 (DIP, Plastic; 18 Leads; Row Spacing 7.62 mm; Pitch 2.54 mm)
pins: 1 RA2 (io), 2 RA3 (io), 3 T0CKI (in), 4 ~{MCLR}/VPP (in), 5 VSS (power), 6 RB0 (io), 7 RB1 (io), 8 RB2 (io), 9 RB3 (io), 10 RB4 (io), 11 RB5 (io), 12 RB6 (io), 13 RB7 (io), 14 VDD (power), 15 OSC2/CLKOUT (out), 16 OSC1/CLKIN (in), 17 RA0 (io), 18 RA1 (io)

## PIC16LV54A-02I/SO
designator U?
EPROM-Based 8-Bit CMOS Microcontroller, 25 Bytes RAM, 200 kHz, 18-Pin SOIC, 2.5 to 3.8V Supply Range, Industrial Temperature; Note: Verify oscillator characteristics if changing from this device to another.; Note: Supply voltage range pertains to RC and XT modes.; Note: Not recommended for new designs. Consider PIC16C54C instead.; Published: 11-Oct-2004; LatestRevisionDate: 13-Apr-2006; LatestRevisionNote: IPC-7351 Footprint Added.; DatasheetVersion: DS30453D_2002; PackageVersion: 2003; PackageReference: SOIC300-18; Publisher: Altium Limited; PackageDescription: 18-Pin Small Outline Integrated Circuit 1.27 mm Pitch; Code_JEDEC: MS-013; ComponentLink1Description: Manufacturer Link; ComponentLink1URL: http://www.microchip.com; ComponentLink2Description: Datasheet; ComponentLink2URL: http://ww1.microchip.com/downloads/en/DeviceDoc/30453d.pdf; ComponentLink3Description: Packaging Specification; ComponentLink3URL: http://ww1.microchip.com/downloads/en/PackagingSpec/00049AD.pdf
footprint SOIC300-18_N (SOIC, 18-Leads, Body 11.5x7.5mm, Pitch 1.27mm, IPC Medium Density)
footprint SOIC300-18_L (SOIC, 18-Leads, Body 11.5x7.5mm, Pitch 1.27mm, IPC High Density)
footprint SOIC300-18_M (SOIC, 18-Leads, Body 11.5x7.5mm, Pitch 1.27mm, IPC Low Density)
3D model SOIC300-18 (18-Pin Small Outline Integrated Circuit 1.27 mm Pitch)
pins: 1 RA2 (io), 2 RA3 (io), 3 T0CKI (in), 4 ~{MCLR}/VPP (in), 5 VSS (power), 6 RB0 (io), 7 RB1 (io), 8 RB2 (io), 9 RB3 (io), 10 RB4 (io), 11 RB5 (io), 12 RB6 (io), 13 RB7 (io), 14 VDD (power), 15 OSC2/CLKOUT (out), 16 OSC1/CLKIN (in), 17 RA0 (io), 18 RA1 (io)

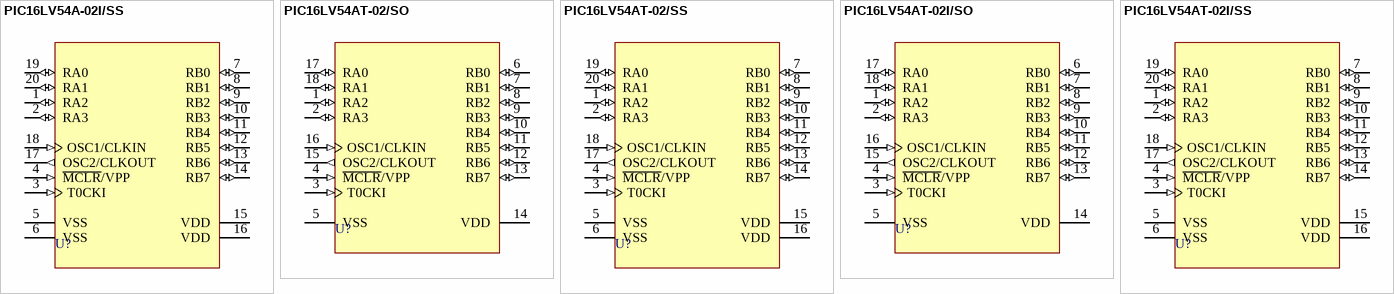
[diagram p47: symbols PIC16LV54A-02I/SS to PIC16LV54AT-02I/SS]

## PIC16LV54A-02I/SS
designator U?
EPROM-Based 8-Bit CMOS Microcontroller, 25 Bytes RAM, 200 kHz, 20-Pin SSOP, 2.5 to 3.8V Supply Range, Industrial Temperature; Note: Verify oscillator characteristics if changing from this device to another.; Note: Supply voltage range pertains to RC and XT modes.; Note: Not recommended for new designs. Consider PIC16C54C instead.; Published: 11-Oct-2004; LatestRevisionDate: 04-Mar-2005; LatestRevisionNote: Stylized 3D Model Added.; DatasheetVersion: DS30453D_2002; PackageVersion: 2003; PackageReference: SSOP-20; Publisher: Altium Limited; PackageDescription: SSOP, Plastic; 20 Leads; Body Width 5.3 mm; Pitch 0.65 mm; Code_JEDEC: MO-150; ComponentLink1Description: Manufacturer Link; ComponentLink1URL: http://www.microchip.com; ComponentLink2Description: Datasheet; ComponentLink2URL: http://ww1.microchip.com/downloads/en/DeviceDoc/30453d.pdf; ComponentLink3Description: Packaging Specification; ComponentLink3URL: http://ww1.microchip.com/downloads/en/PackagingSpec/00049AD.pdf
footprint SSOP-20 (SSOP, Plastic; 20 Leads; Body Width 5.3 mm; Pitch 0.65 mm)
3D model SSOP-20 (SSOP, Plastic; 20 Leads; Body Width 5.3 mm; Pitch 0.65 mm)
pins: 1 RA2 (io), 2 RA3 (io), 3 T0CKI (in), 4 ~{MCLR}/VPP (in), 5 VSS (power), 6 VSS (power), 7 RB0 (io), 8 RB1 (io), 9 RB2 (io), 10 RB3 (io), 11 RB4 (io), 12 RB5 (io), 13 RB6 (io), 14 RB7 (io), 15 VDD (power), 16 VDD (power), 17 OSC2/CLKOUT (out), 18 OSC1/CLKIN (in), 19 RA0 (io), 20 RA1 (io)

## PIC16LV54AT-02/SO
designator U?
EPROM-Based 8-Bit CMOS Microcontroller, 25 Bytes RAM, 200 kHz, 18-Pin SOIC, 2.5 to 3.8V Supply Range, Commercial Temperature, Tape and Reel; Note: Verify oscillator characteristics if changing from this device to another.; Note: Supply voltage range pertains to RC and XT modes.; Note: Not recommended for new designs. Consider PIC16C54C instead.; Published: 11-Oct-2004; LatestRevisionDate: 13-Apr-2006; LatestRevisionNote: IPC-7351 Footprint Added.; DatasheetVersion: DS30453D_2002; PackageVersion: 2003; PackageReference: SOIC300-18; Publisher: Altium Limited; PackageDescription: 18-Pin Small Outline Integrated Circuit 1.27 mm Pitch; Code_JEDEC: MS-013; ComponentLink1Description: Manufacturer Link; ComponentLink1URL: http://www.microchip.com; ComponentLink2Description: Datasheet; ComponentLink2URL: http://ww1.microchip.com/downloads/en/DeviceDoc/30453d.pdf; ComponentLink3Description: Packaging Specification; ComponentLink3URL: http://ww1.microchip.com/downloads/en/PackagingSpec/00049AD.pdf
footprint SOIC300-18_N (SOIC, 18-Leads, Body 11.5x7.5mm, Pitch 1.27mm, IPC Medium Density)
footprint SOIC300-18_L (SOIC, 18-Leads, Body 11.5x7.5mm, Pitch 1.27mm, IPC High Density)
footprint SOIC300-18_M (SOIC, 18-Leads, Body 11.5x7.5mm, Pitch 1.27mm, IPC Low Density)
3D model SOIC300-18 (18-Pin Small Outline Integrated Circuit 1.27 mm Pitch)
pins: 1 RA2 (io), 2 RA3 (io), 3 T0CKI (in), 4 ~{MCLR}/VPP (in), 5 VSS (power), 6 RB0 (io), 7 RB1 (io), 8 RB2 (io), 9 RB3 (io), 10 RB4 (io), 11 RB5 (io), 12 RB6 (io), 13 RB7 (io), 14 VDD (power), 15 OSC2/CLKOUT (out), 16 OSC1/CLKIN (in), 17 RA0 (io), 18 RA1 (io)

## PIC16LV54AT-02/SS
designator U?
EPROM-Based 8-Bit CMOS Microcontroller, 25 Bytes RAM, 200 kHz, 20-Pin SSOP, 2.5 to 3.8V Supply Range, Commercial Temperature, Tape and Reel; Note: Verify oscillator characteristics if changing from this device to another.; Note: Supply voltage range pertains to RC and XT modes.; Note: Not recommended for new designs. Consider PIC16C54C instead.; Published: 11-Oct-2004; LatestRevisionDate: 04-Mar-2005; LatestRevisionNote: Stylized 3D Model Added.; DatasheetVersion: DS30453D_2002; PackageVersion: 2003; PackageReference: SSOP-20; Publisher: Altium Limited; PackageDescription: SSOP, Plastic; 20 Leads; Body Width 5.3 mm; Pitch 0.65 mm; Code_JEDEC: MO-150; ComponentLink1Description: Manufacturer Link; ComponentLink1URL: http://www.microchip.com; ComponentLink2Description: Datasheet; ComponentLink2URL: http://ww1.microchip.com/downloads/en/DeviceDoc/30453d.pdf; ComponentLink3Description: Packaging Specification; ComponentLink3URL: http://ww1.microchip.com/downloads/en/PackagingSpec/00049AD.pdf
footprint SSOP-20 (SSOP, Plastic; 20 Leads; Body Width 5.3 mm; Pitch 0.65 mm)
3D model SSOP-20 (SSOP, Plastic; 20 Leads; Body Width 5.3 mm; Pitch 0.65 mm)
pins: 1 RA2 (io), 2 RA3 (io), 3 T0CKI (in), 4 ~{MCLR}/VPP (in), 5 VSS (power), 6 VSS (power), 7 RB0 (io), 8 RB1 (io), 9 RB2 (io), 10 RB3 (io), 11 RB4 (io), 12 RB5 (io), 13 RB6 (io), 14 RB7 (io), 15 VDD (power), 16 VDD (power), 17 OSC2/CLKOUT (out), 18 OSC1/CLKIN (in), 19 RA0 (io), 20 RA1 (io)

## PIC16LV54AT-02I/SO
designator U?
EPROM-Based 8-Bit CMOS Microcontroller, 25 Bytes RAM, 200 kHz, 18-Pin SOIC, 2.5 to 3.8V Supply Range, Industrial Temperature, Tape and Reel; Note: Verify oscillator characteristics if changing from this device to another.; Note: Supply voltage range pertains to RC and XT modes.; Note: Not recommended for new designs. Consider PIC16C54C instead.; Published: 11-Oct-2004; LatestRevisionDate: 13-Apr-2006; LatestRevisionNote: IPC-7351 Footprint Added.; DatasheetVersion: DS30453D_2002; PackageVersion: 2003; PackageReference: SOIC300-18; Publisher: Altium Limited; PackageDescription: 18-Pin Small Outline Integrated Circuit 1.27 mm Pitch; Code_JEDEC: MS-013; ComponentLink1Description: Manufacturer Link; ComponentLink1URL: http://www.microchip.com; ComponentLink2Description: Datasheet; ComponentLink2URL: http://ww1.microchip.com/downloads/en/DeviceDoc/30453d.pdf; ComponentLink3Description: Packaging Specification; ComponentLink3URL: http://ww1.microchip.com/downloads/en/PackagingSpec/00049AD.pdf
footprint SOIC300-18_N (SOIC, 18-Leads, Body 11.5x7.5mm, Pitch 1.27mm, IPC Medium Density)
footprint SOIC300-18_L (SOIC, 18-Leads, Body 11.5x7.5mm, Pitch 1.27mm, IPC High Density)
footprint SOIC300-18_M (SOIC, 18-Leads, Body 11.5x7.5mm, Pitch 1.27mm, IPC Low Density)
3D model SOIC300-18 (18-Pin Small Outline Integrated Circuit 1.27 mm Pitch)
pins: 1 RA2 (io), 2 RA3 (io), 3 T0CKI (in), 4 ~{MCLR}/VPP (in), 5 VSS (power), 6 RB0 (io), 7 RB1 (io), 8 RB2 (io), 9 RB3 (io), 10 RB4 (io), 11 RB5 (io), 12 RB6 (io), 13 RB7 (io), 14 VDD (power), 15 OSC2/CLKOUT (out), 16 OSC1/CLKIN (in), 17 RA0 (io), 18 RA1 (io)

## PIC16LV54AT-02I/SS
designator U?
EPROM-Based 8-Bit CMOS Microcontroller, 25 Bytes RAM, 200 kHz, 20-Pin SSOP, 2.5 to 3.8V Supply Range, Industrial Temperature, Tape and Reel; Note: Verify oscillator characteristics if changing from this device to another.; Note: Supply voltage range pertains to RC and XT modes.; Note: Not recommended for new designs. Consider PIC16C54C instead.; Published: 11-Oct-2004; LatestRevisionDate: 04-Mar-2005; LatestRevisionNote: Stylized 3D Model Added.; DatasheetVersion: DS30453D_2002; PackageVersion: 2003; PackageReference: SSOP-20; Publisher: Altium Limited; PackageDescription: SSOP, Plastic; 20 Leads; Body Width 5.3 mm; Pitch 0.65 mm; Code_JEDEC: MO-150; ComponentLink1Description: Manufacturer Link; ComponentLink1URL: http://www.microchip.com; ComponentLink2Description: Datasheet; ComponentLink2URL: http://ww1.microchip.com/downloads/en/DeviceDoc/30453d.pdf; ComponentLink3Description: Packaging Specification; ComponentLink3URL: http://ww1.microchip.com/downloads/en/PackagingSpec/00049AD.pdf
footprint SSOP-20 (SSOP, Plastic; 20 Leads; Body Width 5.3 mm; Pitch 0.65 mm)
3D model SSOP-20 (SSOP, Plastic; 20 Leads; Body Width 5.3 mm; Pitch 0.65 mm)
pins: 1 RA2 (io), 2 RA3 (io), 3 T0CKI (in), 4 ~{MCLR}/VPP (in), 5 VSS (power), 6 VSS (power), 7 RB0 (io), 8 RB1 (io), 9 RB2 (io), 10 RB3 (io), 11 RB4 (io), 12 RB5 (io), 13 RB6 (io), 14 RB7 (io), 15 VDD (power), 16 VDD (power), 17 OSC2/CLKOUT (out), 18 OSC1/CLKIN (in), 19 RA0 (io), 20 RA1 (io)